# Altium footprint library RPA602412SFWHC.PcbLib: 1 footprints
Each footprint in its own frame and in the unit in brackets; x right, y up, seen from the top. Pads: shape width x height; smd on the part's side, far side on the other; paste and mask are expansions set on the pad; w line width, h text height; cw(c..) or ccw(c..) is an arc to the next point about the centre after c.
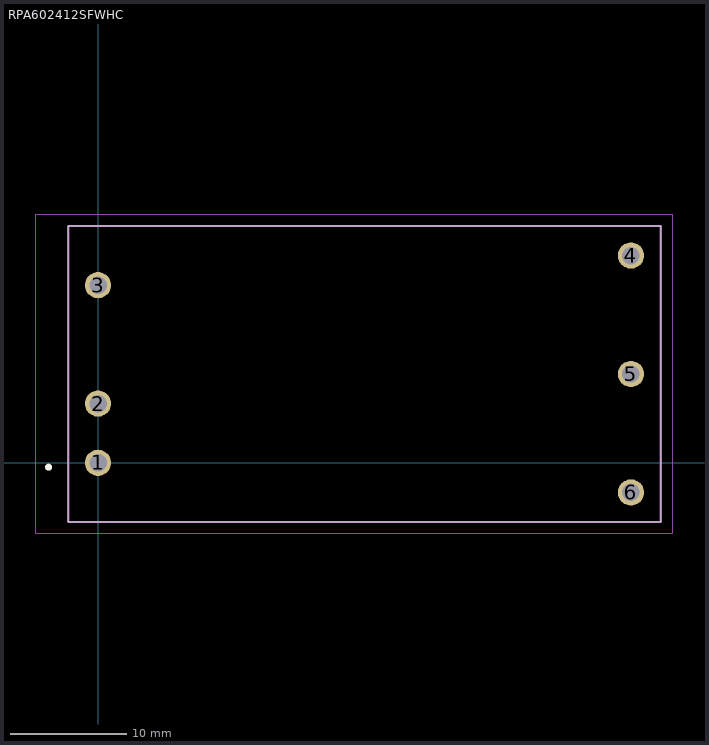
[diagram p0: the footprint, top view; thin cyan lines are the x and y axes]

## RPA602412SFWHC [mm]
pads (6):
  round 2.25 hole 1.5: 1(0,0) 2(0,5.08) 3(0,15.24) 4(45.72,17.78) 5(45.72,7.62) 6(45.72,-2.54)
Top Overlay:
  lines w0.1: -2.54,-5.08 48.26,-5.08 48.26,20.32 -2.54,20.32 -2.54,-5.08
  lines w0.4: -4.34,-0.38 cw(c-4.24,-0.38) -4.14,-0.38 ; -4.34,-0.38 -4.34,-0.38 ; -4.34,-0.38 ccw(c-4.24,-0.38) -4.14,-0.38 ; -4.14,-0.38 -4.14,-0.38
Mechanical 15:
  lines w0.2: -2.54,-5.08 48.26,-5.08 48.26,20.32 -2.54,20.32 -2.54,-5.08
Mechanical 20:
  lines w0.1: -5.34,-6.08 49.26,-6.08 49.26,21.32 -5.34,21.32 -5.34,-6.08